# EAGLE library part LM3914 (library mentor2)
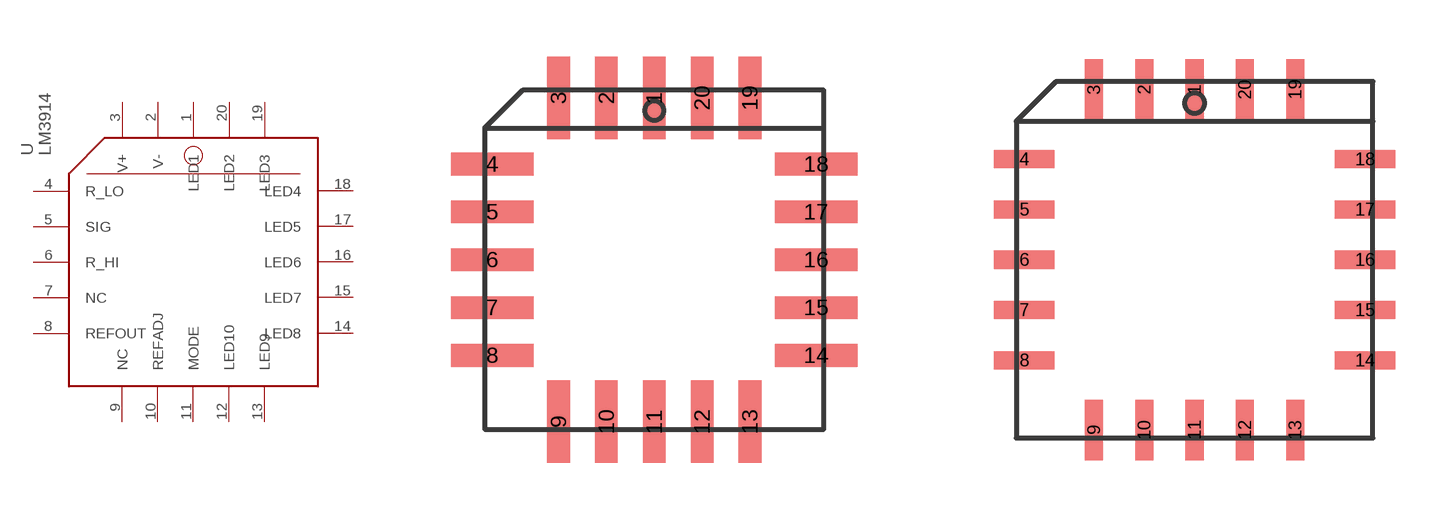
[diagram p11: symbol with the pads of PLCC20; footprints PLCC20, PLCC20_SLIM]

Designator prefix -

## LM3914  [PLCC20]
1  LED1
2  V-
3  V+
4  R_LO
5  SIG
6  R_HI
7  NC
8  REFOUT
9  NC
10  REFADJ
11  MODE
12  LED10
13  LED9
14  LED8
15  LED7
16  LED6
17  LED5
18  LED4
19  LED3
20  LED2

## LM3914SLIM  [PLCC20_SLIM]
Pads as for PLCC20

## Footprint PLCC20 (pad centres in mm)
smd 0.6 x 2.2: 1 0,4.3; 2 -1.27,4.3; 3 -2.54,4.3; 9 -2.54,-4.3; 10 -1.27,-4.3; 11 0,-4.3; 12 1.27,-4.3; 13 2.54,-4.3; 19 2.54,4.3; 20 1.27,4.3
smd 2.2 x 0.6: 4 -4.3,2.54; 5 -4.3,1.27; 6 -4.3,0; 7 -4.3,-1.27; 8 -4.3,-2.54; 14 4.3,-2.54; 15 4.3,-1.27; 16 4.3,0; 17 4.3,1.27; 18 4.3,2.54

## Footprint PLCC20_SLIM (pad centres in mm)
smd 0.457 x 1.524: 1 0,4.3; 2 -1.27,4.3; 3 -2.54,4.3; 9 -2.54,-4.3; 10 -1.27,-4.3; 11 0,-4.3; 12 1.27,-4.3; 13 2.54,-4.3; 19 2.54,4.3; 20 1.27,4.3
smd 1.524 x 0.457: 4 -4.3,2.54; 5 -4.3,1.27; 6 -4.3,0; 7 -4.3,-1.27; 8 -4.3,-2.54; 14 4.3,-2.54; 15 4.3,-1.27; 16 4.3,0; 17 4.3,1.27; 18 4.3,2.54